# EAGLE library part 3342 (library 3342)
Adafruit Accessories 2x40 Right Angle Edge Connector for micro:bit Source: Datasheet
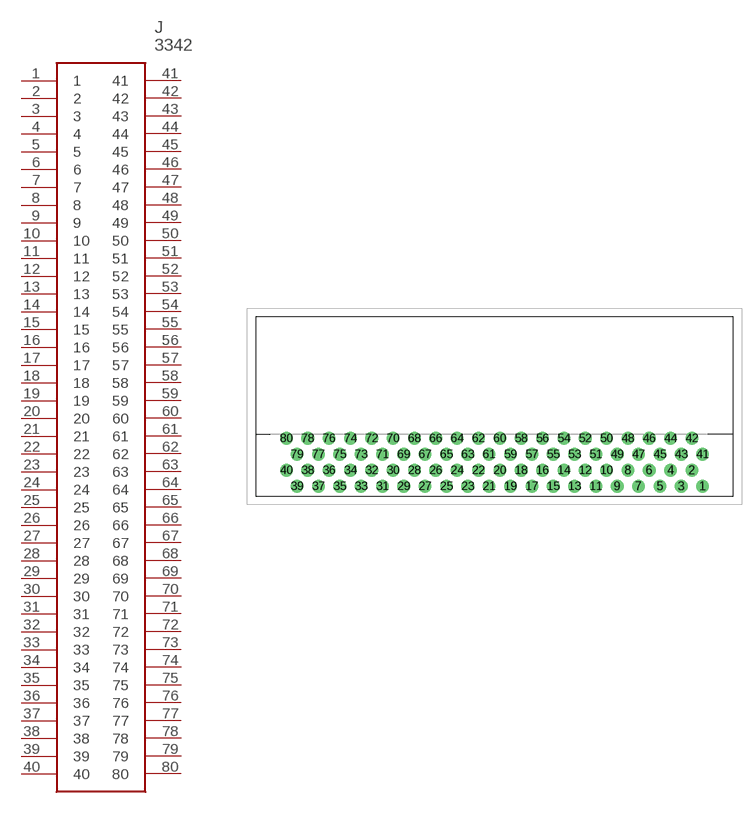
[diagram p0: symbol with the pads of 3342; footprint 3342]

Designator prefix J

## 3342 (Description: Adafruit Accessories 2x40 Right Angle Edge Connector for micro:bit; Height: 8mm; Manufacturer_Name: Adafruit; Manufacturer_Part_Number: 3342; Mouser_Part_Number: 485-3342; Mouser_Price-Stock: https://www.mouser.co.uk/ProductDetail/Adafruit/3342?qs=IP4CA2YhK0CGpdvM3aFp3w%3D%3D)  [3342]
1  1
2  2
3  3
4  4
5  5
6  6
7  7
8  8
9  9
10  10
11  11
12  12
13  13
14  14
15  15
16  16
17  17
18  18
19  19
20  20
21  21
22  22
23  23
24  24
25  25
26  26
27  27
28  28
29  29
30  30
31  31
32  32
33  33
34  34
35  35
36  36
37  37
38  38
39  39
40  40
41  41
42  42
43  43
44  44
45  45
46  46
47  47
48  48
49  49
50  50
51  51
52  52
53  53
54  54
55  55
56  56
57  57
58  58
59  59
60  60
61  61
62  62
63  63
64  64
65  65
66  66
67  67
68  68
69  69
70  70
71  71
72  72
73  73
74  74
75  75
76  76
77  77
78  78
79  79
80  80

## Footprint 3342 (pad centres in mm)
3342
drill 1 pad 1.5: 1 24.765,-9.5; 2 23.495,-7.6; 3 22.225,-9.5; 4 20.955,-7.6; 5 19.685,-9.5; 6 18.415,-7.6; 7 17.145,-9.5; 8 15.875,-7.6; 9 14.605,-9.5; 10 13.335,-7.6; 11 12.065,-9.5; 12 10.795,-7.6; 13 9.525,-9.5; 14 8.255,-7.6; 15 6.985,-9.5; 16 5.715,-7.6; 17 4.445,-9.5; 18 3.175,-7.6; 19 1.905,-9.5; 20 0.635,-7.6; 21 -0.635,-9.5; 22 -1.905,-7.6; 23 -3.175,-9.5; 24 -4.445,-7.6; 25 -5.715,-9.5; 26 -6.985,-7.6; 27 -8.255,-9.5; 28 -9.525,-7.6; 29 -10.795,-9.5; 30 -12.065,-7.6; 31 -13.335,-9.5; 32 -14.605,-7.6; 33 -15.875,-9.5; 34 -17.145,-7.6; 35 -18.415,-9.5; 36 -19.685,-7.6; 37 -20.955,-9.5; 38 -22.225,-7.6; 39 -23.495,-9.5; 40 -24.765,-7.6; 41 24.765,-5.7; 42 23.495,-3.8; 43 22.225,-5.7; 44 20.955,-3.8; 45 19.685,-5.7; 46 18.415,-3.8; 47 17.145,-5.7; 48 15.875,-3.8; 49 14.605,-5.7; 50 13.335,-3.8; 51 12.065,-5.7; 52 10.795,-3.8; 53 9.525,-5.7; 54 8.255,-3.8; 55 6.985,-5.7; 56 5.715,-3.8; 57 4.445,-5.7; 58 3.175,-3.8; 59 1.905,-5.7; 60 0.635,-3.8; 61 -0.635,-5.7; 62 -1.905,-3.8; 63 -3.175,-5.7; 64 -4.445,-3.8; 65 -5.715,-5.7; 66 -6.985,-3.8; 67 -8.255,-5.7; 68 -9.525,-3.8; 69 -10.795,-5.7; 70 -12.065,-3.8; 71 -13.335,-5.7; 72 -14.605,-3.8; 73 -15.875,-5.7; 74 -17.145,-3.8; 75 -18.415,-5.7; 76 -19.685,-3.8; 77 -20.955,-5.7; 78 -22.225,-3.8; 79 -23.495,-5.7; 80 -24.765,-3.8